# Altium integrated library Microchip Microcontroller 8-Bit PIC16 1.IntLib: 1072 symbols (part 21 of 33)
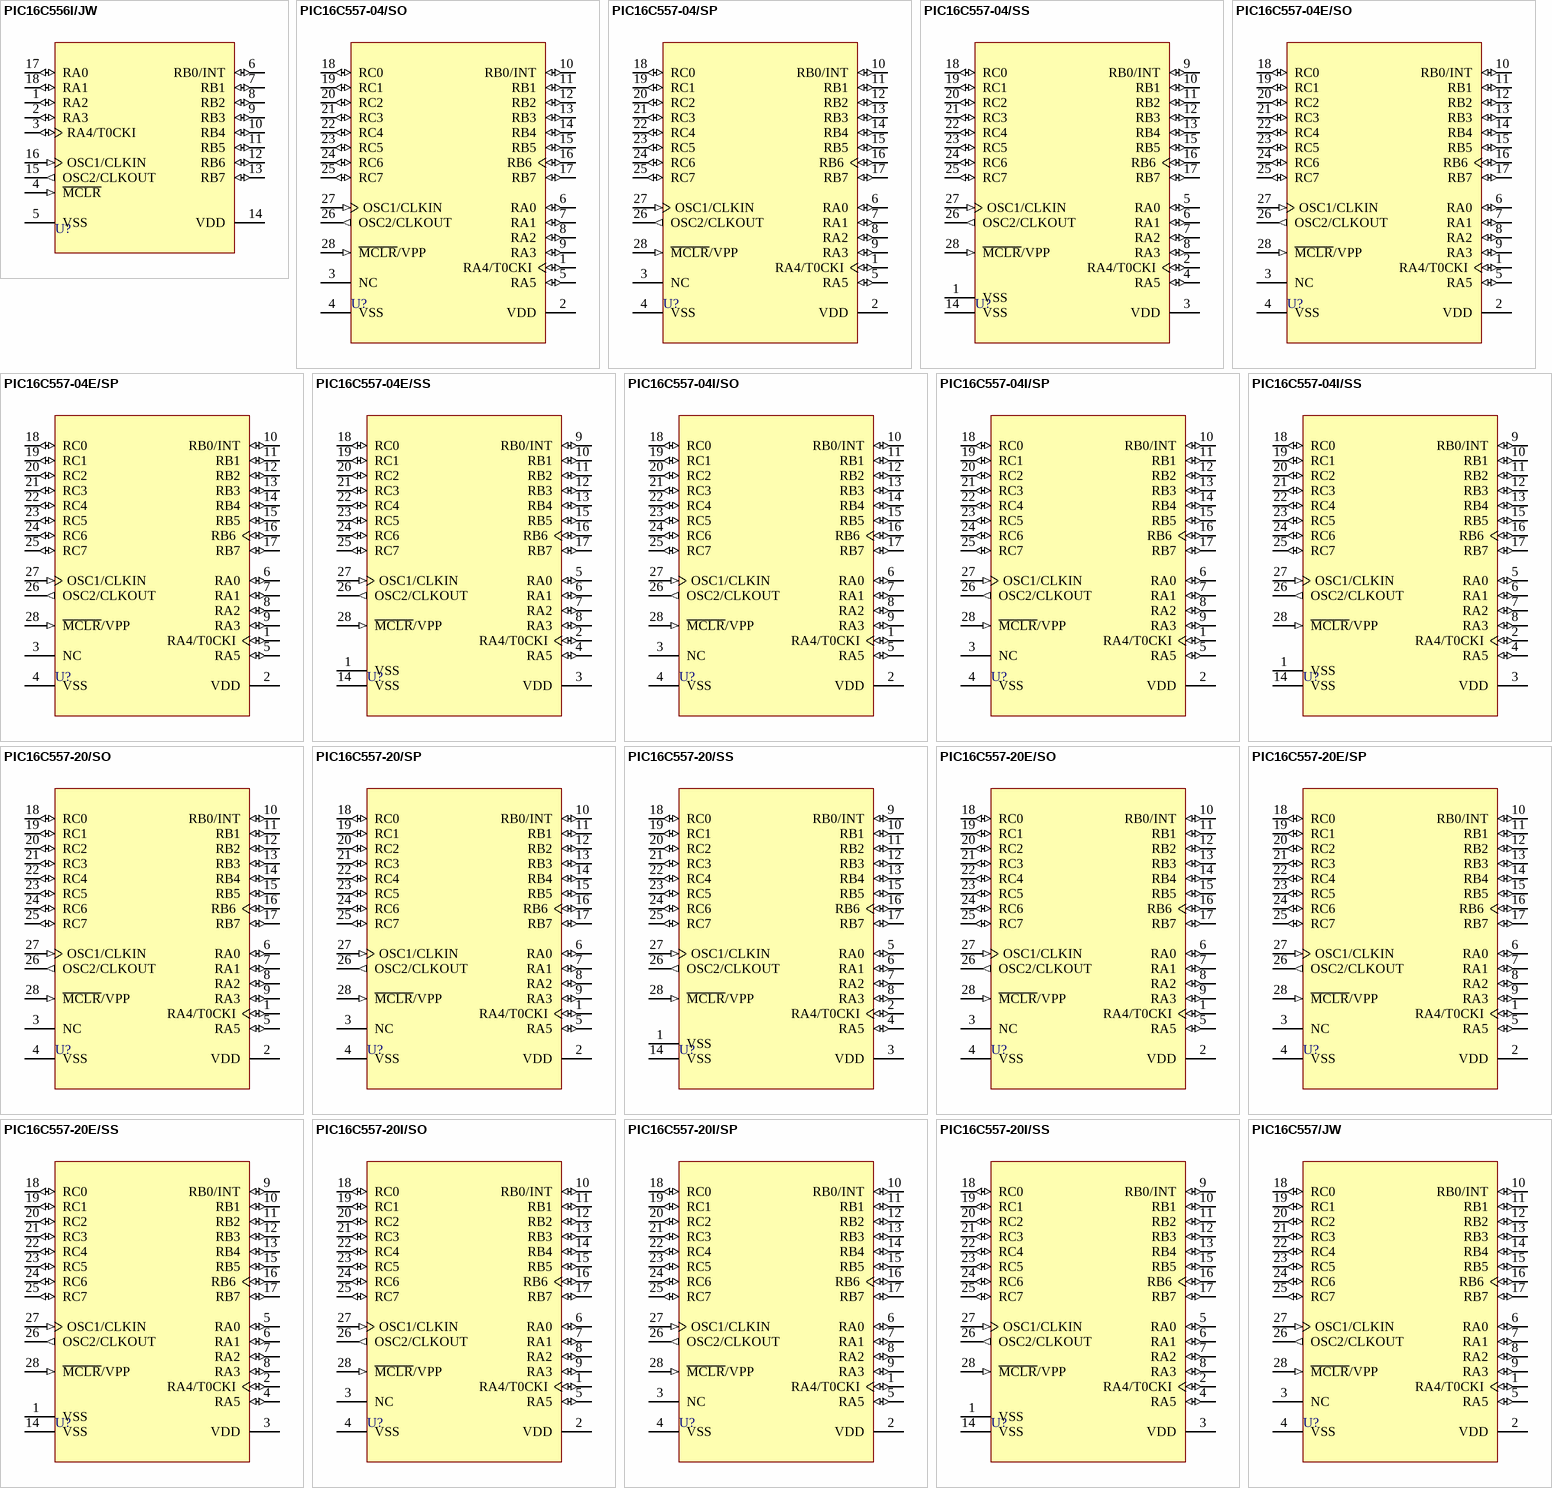
[diagram p67: symbols PIC16C556I/JW to PIC16C557/JW]

## PIC16C557-04/SP
designator U?
EPROM-Based 8-Bit CMOS Microcontroller, 128 Bytes RAM, 4 MHz, 22 I/O pins, 28-Pin PDIP 300mil, Standard VDD Range, Commercial Temperature; Note: All PIC16C55X Family devices use serial programming with clock pin RB6 and data pin RB7.; Note: 3.0 to 5.5V Supply Range in RC, XT and LP modes.; Note: 4.5 to 5.5V Supply Range in HS mode.; Published: 11-Oct-2004; LatestRevisionDate: 04-Mar-2005; LatestRevisionNote: Stylized 3D Model Added.; DatasheetVersion: DS40143D_2002; PackageVersion: 2003; PackageReference: PDIP300-28; Publisher: Altium Limited; PackageDescription: DIP, Plastic, Skinny; 28 Leads; Row Spacing 7.62 mm; Pitch 2.54 mm; Code_JEDEC: MO-095; ComponentLink1Description: Manufacturer Link; ComponentLink1URL: http://www.microchip.com; ComponentLink2Description: Datasheet; ComponentLink2URL: http://ww1.microchip.com/downloads/en/DeviceDoc/40143d.pdf; ComponentLink3Description: Packaging Specification; ComponentLink3URL: http://ww1.microchip.com/downloads/en/PackagingSpec/00049AD.pdf
footprint PDIP300-28 (DIP, Plastic, Skinny; 28 Leads; Row Spacing 7.62 mm; Pitch 2.54 mm)
3D model PDIP300-28 (DIP, Plastic, Skinny; 28 Leads; Row Spacing 7.62 mm; Pitch 2.54 mm)
pins: 1 RA4/T0CKI (io), 2 VDD (power), 3 NC, 4 VSS (power), 5 RA5 (io), 6 RA0 (io), 7 RA1 (io), 8 RA2 (io), 9 RA3 (io), 10 RB0/INT (io), 11 RB1 (io), 12 RB2 (io), 13 RB3 (io), 14 RB4 (io), 15 RB5 (io), 16 RB6 (io), 17 RB7 (io), 18 RC0 (io), 19 RC1 (io), 20 RC2 (io), 21 RC3 (io), 22 RC4 (io), 23 RC5 (io), 24 RC6 (io), 25 RC7 (io), 26 OSC2/CLKOUT (out), 27 OSC1/CLKIN (in), 28 ~{MCLR}/VPP (in)

## PIC16C557-04/SS
designator U?
EPROM-Based 8-Bit CMOS Microcontroller, 128 Bytes RAM, 4 MHz, 22 I/O pins, 28-Pin SSOP, Standard VDD Range, Commercial Temperature; Note: All PIC16C55X Family devices use serial programming with clock pin RB6 and data pin RB7.; Note: 3.0 to 5.5V Supply Range in RC, XT and LP modes.; Note: 4.5 to 5.5V Supply Range in HS mode.; Published: 11-Oct-2004; LatestRevisionDate: 04-Mar-2005; LatestRevisionNote: Stylized 3D Model Added.; DatasheetVersion: DS40143D_2002; PackageVersion: 2005; PackageReference: SSOP-28; Publisher: Altium Limited; PackageDescription: SSOP, Plastic; 28 Leads; Body Width 5.2 mm; Pitch 0.65 mm; Code_JEDEC: MS-150; ComponentLink1Description: Manufacturer Link; ComponentLink1URL: http://www.microchip.com; ComponentLink2Description: Datasheet; ComponentLink2URL: http://ww1.microchip.com/downloads/en/DeviceDoc/40143d.pdf; ComponentLink3Description: Packaging Specification; ComponentLink3URL: http://ww1.microchip.com/downloads/en/PackagingSpec/00049AD.pdf
footprint SSOP-28 (SSOP, Plastic; 28 Leads; Body Width 5.2 mm; Pitch 0.65 mm)
3D model SSOP-28 (SSOP, Plastic; 28 Leads; Body Width 5.2 mm; Pitch 0.65 mm)
pins: 1 VSS (power), 2 RA4/T0CKI (io), 3 VDD (power), 4 RA5 (io), 5 RA0 (io), 6 RA1 (io), 7 RA2 (io), 8 RA3 (io), 9 RB0/INT (io), 10 RB1 (io), 11 RB2 (io), 12 RB3 (io), 13 RB4 (io), 14 VSS (power), 15 RB5 (io), 16 RB6 (io), 17 RB7 (io), 18 RC0 (io), 19 RC1 (io), 20 RC2 (io), 21 RC3 (io), 22 RC4 (io), 23 RC5 (io), 24 RC6 (io), 25 RC7 (io), 26 OSC2/CLKOUT (out), 27 OSC1/CLKIN (in), 28 ~{MCLR}/VPP (in)

## PIC16C557-04E/SO
designator U?
EPROM-Based 8-Bit CMOS Microcontroller, 128 Bytes RAM, 4 MHz, 22 I/O pins, 28-Pin SOIC, Standard VDD Range, Extended Temperature; Note: All PIC16C55X Family devices use serial programming with clock pin RB6 and data pin RB7.; Note: 3.0 to 5.5V Supply Range in RC, XT and LP modes.; Note: 4.5 to 5.5V Supply Range in HS mode.; Published: 11-Oct-2004; LatestRevisionDate: 13-Apr-2006; LatestRevisionNote: IPC-7351 Footprint Added.; DatasheetVersion: DS40143D_2002; PackageVersion: 2005; PackageReference: SOIC300-28; Publisher: Altium Limited; PackageDescription: 28-Pin Small Outline Integrated Circuit 1.27 mm Pitch; Code_JEDEC: MS-013; ComponentLink1Description: Manufacturer Link; ComponentLink1URL: http://www.microchip.com; ComponentLink2Description: Datasheet; ComponentLink2URL: http://ww1.microchip.com/downloads/en/DeviceDoc/40143d.pdf; ComponentLink3Description: Packaging Specification; ComponentLink3URL: http://ww1.microchip.com/downloads/en/PackagingSpec/00049AD.pdf
footprint SOIC300-28_N (SOIC, 28-Leads, Body 17.9x7.5mm, Pitch 1.27mm, IPC Medium Density)
footprint SOIC300-28_L (SOIC, 28-Leads, Body 17.9x7.5mm, Pitch 1.27mm, IPC High Density)
footprint SOIC300-28_M (SOIC, 28-Leads, Body 17.9x7.5mm, Pitch 1.27mm, IPC Low Density)
3D model SOIC300-28 (28-Pin Small Outline Integrated Circuit 1.27 mm Pitch)
pins: 1 RA4/T0CKI (io), 2 VDD (power), 3 NC, 4 VSS (power), 5 RA5 (io), 6 RA0 (io), 7 RA1 (io), 8 RA2 (io), 9 RA3 (io), 10 RB0/INT (io), 11 RB1 (io), 12 RB2 (io), 13 RB3 (io), 14 RB4 (io), 15 RB5 (io), 16 RB6 (io), 17 RB7 (io), 18 RC0 (io), 19 RC1 (io), 20 RC2 (io), 21 RC3 (io), 22 RC4 (io), 23 RC5 (io), 24 RC6 (io), 25 RC7 (io), 26 OSC2/CLKOUT (out), 27 OSC1/CLKIN (in), 28 ~{MCLR}/VPP (in)

## PIC16C557-04E/SP
designator U?
EPROM-Based 8-Bit CMOS Microcontroller, 128 Bytes RAM, 4 MHz, 22 I/O pins, 28-Pin PDIP 300mil, Standard VDD Range, Extended Temperature; Note: All PIC16C55X Family devices use serial programming with clock pin RB6 and data pin RB7.; Note: 3.0 to 5.5V Supply Range in RC, XT and LP modes.; Note: 4.5 to 5.5V Supply Range in HS mode.; Published: 11-Oct-2004; LatestRevisionDate: 04-Mar-2005; LatestRevisionNote: Stylized 3D Model Added.; DatasheetVersion: DS40143D_2002; PackageVersion: 2003; PackageReference: PDIP300-28; Publisher: Altium Limited; PackageDescription: DIP, Plastic, Skinny; 28 Leads; Row Spacing 7.62 mm; Pitch 2.54 mm; Code_JEDEC: MO-095; ComponentLink1Description: Manufacturer Link; ComponentLink1URL: http://www.microchip.com; ComponentLink2Description: Datasheet; ComponentLink2URL: http://ww1.microchip.com/downloads/en/DeviceDoc/40143d.pdf; ComponentLink3Description: Packaging Specification; ComponentLink3URL: http://ww1.microchip.com/downloads/en/PackagingSpec/00049AD.pdf
footprint PDIP300-28 (DIP, Plastic, Skinny; 28 Leads; Row Spacing 7.62 mm; Pitch 2.54 mm)
3D model PDIP300-28 (DIP, Plastic, Skinny; 28 Leads; Row Spacing 7.62 mm; Pitch 2.54 mm)
pins: 1 RA4/T0CKI (io), 2 VDD (power), 3 NC, 4 VSS (power), 5 RA5 (io), 6 RA0 (io), 7 RA1 (io), 8 RA2 (io), 9 RA3 (io), 10 RB0/INT (io), 11 RB1 (io), 12 RB2 (io), 13 RB3 (io), 14 RB4 (io), 15 RB5 (io), 16 RB6 (io), 17 RB7 (io), 18 RC0 (io), 19 RC1 (io), 20 RC2 (io), 21 RC3 (io), 22 RC4 (io), 23 RC5 (io), 24 RC6 (io), 25 RC7 (io), 26 OSC2/CLKOUT (out), 27 OSC1/CLKIN (in), 28 ~{MCLR}/VPP (in)

## PIC16C557-04E/SS
designator U?
EPROM-Based 8-Bit CMOS Microcontroller, 128 Bytes RAM, 4 MHz, 22 I/O pins, 28-Pin SSOP, Standard VDD Range, Extended Temperature; Note: All PIC16C55X Family devices use serial programming with clock pin RB6 and data pin RB7.; Note: 3.0 to 5.5V Supply Range in RC, XT and LP modes.; Note: 4.5 to 5.5V Supply Range in HS mode.; Published: 11-Oct-2004; LatestRevisionDate: 04-Mar-2005; LatestRevisionNote: Stylized 3D Model Added.; DatasheetVersion: DS40143D_2002; PackageVersion: 2005; PackageReference: SSOP-28; Publisher: Altium Limited; PackageDescription: SSOP, Plastic; 28 Leads; Body Width 5.2 mm; Pitch 0.65 mm; Code_JEDEC: MS-150; ComponentLink1Description: Manufacturer Link; ComponentLink1URL: http://www.microchip.com; ComponentLink2Description: Datasheet; ComponentLink2URL: http://ww1.microchip.com/downloads/en/DeviceDoc/40143d.pdf; ComponentLink3Description: Packaging Specification; ComponentLink3URL: http://ww1.microchip.com/downloads/en/PackagingSpec/00049AD.pdf
footprint SSOP-28 (SSOP, Plastic; 28 Leads; Body Width 5.2 mm; Pitch 0.65 mm)
3D model SSOP-28 (SSOP, Plastic; 28 Leads; Body Width 5.2 mm; Pitch 0.65 mm)
pins: 1 VSS (power), 2 RA4/T0CKI (io), 3 VDD (power), 4 RA5 (io), 5 RA0 (io), 6 RA1 (io), 7 RA2 (io), 8 RA3 (io), 9 RB0/INT (io), 10 RB1 (io), 11 RB2 (io), 12 RB3 (io), 13 RB4 (io), 14 VSS (power), 15 RB5 (io), 16 RB6 (io), 17 RB7 (io), 18 RC0 (io), 19 RC1 (io), 20 RC2 (io), 21 RC3 (io), 22 RC4 (io), 23 RC5 (io), 24 RC6 (io), 25 RC7 (io), 26 OSC2/CLKOUT (out), 27 OSC1/CLKIN (in), 28 ~{MCLR}/VPP (in)

## PIC16C557-04I/SO
designator U?
EPROM-Based 8-Bit CMOS Microcontroller, 128 Bytes RAM, 4 MHz, 22 I/O pins, 28-Pin SOIC, Standard VDD Range, Industrial Temperature; Note: All PIC16C55X Family devices use serial programming with clock pin RB6 and data pin RB7.; Note: 3.0 to 5.5V Supply Range in RC, XT and LP modes.; Note: 4.5 to 5.5V Supply Range in HS mode.; Published: 11-Oct-2004; LatestRevisionDate: 13-Apr-2006; LatestRevisionNote: IPC-7351 Footprint Added.; DatasheetVersion: DS40143D_2002; PackageVersion: 2005; PackageReference: SOIC300-28; Publisher: Altium Limited; PackageDescription: 28-Pin Small Outline Integrated Circuit 1.27 mm Pitch; Code_JEDEC: MS-013; ComponentLink1Description: Manufacturer Link; ComponentLink1URL: http://www.microchip.com; ComponentLink2Description: Datasheet; ComponentLink2URL: http://ww1.microchip.com/downloads/en/DeviceDoc/40143d.pdf; ComponentLink3Description: Packaging Specification; ComponentLink3URL: http://ww1.microchip.com/downloads/en/PackagingSpec/00049AD.pdf
footprint SOIC300-28_N (SOIC, 28-Leads, Body 17.9x7.5mm, Pitch 1.27mm, IPC Medium Density)
footprint SOIC300-28_L (SOIC, 28-Leads, Body 17.9x7.5mm, Pitch 1.27mm, IPC High Density)
footprint SOIC300-28_M (SOIC, 28-Leads, Body 17.9x7.5mm, Pitch 1.27mm, IPC Low Density)
3D model SOIC300-28 (28-Pin Small Outline Integrated Circuit 1.27 mm Pitch)
pins: 1 RA4/T0CKI (io), 2 VDD (power), 3 NC, 4 VSS (power), 5 RA5 (io), 6 RA0 (io), 7 RA1 (io), 8 RA2 (io), 9 RA3 (io), 10 RB0/INT (io), 11 RB1 (io), 12 RB2 (io), 13 RB3 (io), 14 RB4 (io), 15 RB5 (io), 16 RB6 (io), 17 RB7 (io), 18 RC0 (io), 19 RC1 (io), 20 RC2 (io), 21 RC3 (io), 22 RC4 (io), 23 RC5 (io), 24 RC6 (io), 25 RC7 (io), 26 OSC2/CLKOUT (out), 27 OSC1/CLKIN (in), 28 ~{MCLR}/VPP (in)

## PIC16C557-04I/SP
designator U?
EPROM-Based 8-Bit CMOS Microcontroller, 128 Bytes RAM, 4 MHz, 22 I/O pins, 28-Pin PDIP 300mil, Standard VDD Range, Industrial Temperature; Note: All PIC16C55X Family devices use serial programming with clock pin RB6 and data pin RB7.; Note: 3.0 to 5.5V Supply Range in RC, XT and LP modes.; Note: 4.5 to 5.5V Supply Range in HS mode.; Published: 11-Oct-2004; LatestRevisionDate: 04-Mar-2005; LatestRevisionNote: Stylized 3D Model Added.; DatasheetVersion: DS40143D_2002; PackageVersion: 2003; PackageReference: PDIP300-28; Publisher: Altium Limited; PackageDescription: DIP, Plastic, Skinny; 28 Leads; Row Spacing 7.62 mm; Pitch 2.54 mm; Code_JEDEC: MO-095; ComponentLink1Description: Manufacturer Link; ComponentLink1URL: http://www.microchip.com; ComponentLink2Description: Datasheet; ComponentLink2URL: http://ww1.microchip.com/downloads/en/DeviceDoc/40143d.pdf; ComponentLink3Description: Packaging Specification; ComponentLink3URL: http://ww1.microchip.com/downloads/en/PackagingSpec/00049AD.pdf
footprint PDIP300-28 (DIP, Plastic, Skinny; 28 Leads; Row Spacing 7.62 mm; Pitch 2.54 mm)
3D model PDIP300-28 (DIP, Plastic, Skinny; 28 Leads; Row Spacing 7.62 mm; Pitch 2.54 mm)
pins: 1 RA4/T0CKI (io), 2 VDD (power), 3 NC, 4 VSS (power), 5 RA5 (io), 6 RA0 (io), 7 RA1 (io), 8 RA2 (io), 9 RA3 (io), 10 RB0/INT (io), 11 RB1 (io), 12 RB2 (io), 13 RB3 (io), 14 RB4 (io), 15 RB5 (io), 16 RB6 (io), 17 RB7 (io), 18 RC0 (io), 19 RC1 (io), 20 RC2 (io), 21 RC3 (io), 22 RC4 (io), 23 RC5 (io), 24 RC6 (io), 25 RC7 (io), 26 OSC2/CLKOUT (out), 27 OSC1/CLKIN (in), 28 ~{MCLR}/VPP (in)

## PIC16C557-04I/SS
designator U?
EPROM-Based 8-Bit CMOS Microcontroller, 128 Bytes RAM, 4 MHz, 22 I/O pins, 28-Pin SSOP, Standard VDD Range, Industrial Temperature; Note: All PIC16C55X Family devices use serial programming with clock pin RB6 and data pin RB7.; Note: 3.0 to 5.5V Supply Range in RC, XT and LP modes.; Note: 4.5 to 5.5V Supply Range in HS mode.; Published: 11-Oct-2004; LatestRevisionDate: 04-Mar-2005; LatestRevisionNote: Stylized 3D Model Added.; DatasheetVersion: DS40143D_2002; PackageVersion: 2005; PackageReference: SSOP-28; Publisher: Altium Limited; PackageDescription: SSOP, Plastic; 28 Leads; Body Width 5.2 mm; Pitch 0.65 mm; Code_JEDEC: MS-150; ComponentLink1Description: Manufacturer Link; ComponentLink1URL: http://www.microchip.com; ComponentLink2Description: Datasheet; ComponentLink2URL: http://ww1.microchip.com/downloads/en/DeviceDoc/40143d.pdf; ComponentLink3Description: Packaging Specification; ComponentLink3URL: http://ww1.microchip.com/downloads/en/PackagingSpec/00049AD.pdf
footprint SSOP-28 (SSOP, Plastic; 28 Leads; Body Width 5.2 mm; Pitch 0.65 mm)
3D model SSOP-28 (SSOP, Plastic; 28 Leads; Body Width 5.2 mm; Pitch 0.65 mm)
pins: 1 VSS (power), 2 RA4/T0CKI (io), 3 VDD (power), 4 RA5 (io), 5 RA0 (io), 6 RA1 (io), 7 RA2 (io), 8 RA3 (io), 9 RB0/INT (io), 10 RB1 (io), 11 RB2 (io), 12 RB3 (io), 13 RB4 (io), 14 VSS (power), 15 RB5 (io), 16 RB6 (io), 17 RB7 (io), 18 RC0 (io), 19 RC1 (io), 20 RC2 (io), 21 RC3 (io), 22 RC4 (io), 23 RC5 (io), 24 RC6 (io), 25 RC7 (io), 26 OSC2/CLKOUT (out), 27 OSC1/CLKIN (in), 28 ~{MCLR}/VPP (in)

## PIC16C557-20/SO
designator U?
EPROM-Based 8-Bit CMOS Microcontroller, 128 Bytes RAM, 20 MHz, 22 I/O pins, 28-Pin SOIC, Standard VDD Range, Commercial Temperature; Note: All PIC16C55X Family devices use serial programming with clock pin RB6 and data pin RB7.; Note: 3.0 to 5.5V Supply Range in RC, XT and LP modes.; Note: 4.5 to 5.5V Supply Range in HS mode.; Published: 11-Oct-2004; LatestRevisionDate: 13-Apr-2006; LatestRevisionNote: IPC-7351 Footprint Added.; DatasheetVersion: DS40143D_2002; PackageVersion: 2005; PackageReference: SOIC300-28; Publisher: Altium Limited; PackageDescription: 28-Pin Small Outline Integrated Circuit 1.27 mm Pitch; Code_JEDEC: MS-013; ComponentLink1Description: Manufacturer Link; ComponentLink1URL: http://www.microchip.com; ComponentLink2Description: Datasheet; ComponentLink2URL: http://ww1.microchip.com/downloads/en/DeviceDoc/40143d.pdf; ComponentLink3Description: Packaging Specification; ComponentLink3URL: http://ww1.microchip.com/downloads/en/PackagingSpec/00049AD.pdf
footprint SOIC300-28_N (SOIC, 28-Leads, Body 17.9x7.5mm, Pitch 1.27mm, IPC Medium Density)
footprint SOIC300-28_L (SOIC, 28-Leads, Body 17.9x7.5mm, Pitch 1.27mm, IPC High Density)
footprint SOIC300-28_M (SOIC, 28-Leads, Body 17.9x7.5mm, Pitch 1.27mm, IPC Low Density)
3D model SOIC300-28 (28-Pin Small Outline Integrated Circuit 1.27 mm Pitch)
pins: 1 RA4/T0CKI (io), 2 VDD (power), 3 NC, 4 VSS (power), 5 RA5 (io), 6 RA0 (io), 7 RA1 (io), 8 RA2 (io), 9 RA3 (io), 10 RB0/INT (io), 11 RB1 (io), 12 RB2 (io), 13 RB3 (io), 14 RB4 (io), 15 RB5 (io), 16 RB6 (io), 17 RB7 (io), 18 RC0 (io), 19 RC1 (io), 20 RC2 (io), 21 RC3 (io), 22 RC4 (io), 23 RC5 (io), 24 RC6 (io), 25 RC7 (io), 26 OSC2/CLKOUT (out), 27 OSC1/CLKIN (in), 28 ~{MCLR}/VPP (in)

## PIC16C557-20/SP
designator U?
EPROM-Based 8-Bit CMOS Microcontroller, 128 Bytes RAM, 20 MHz, 22 I/O pins, 28-Pin PDIP 300mil, Standard VDD Range, Commercial Temperature; Note: All PIC16C55X Family devices use serial programming with clock pin RB6 and data pin RB7.; Note: 3.0 to 5.5V Supply Range in RC, XT and LP modes.; Note: 4.5 to 5.5V Supply Range in HS mode.; Published: 11-Oct-2004; LatestRevisionDate: 04-Mar-2005; LatestRevisionNote: Stylized 3D Model Added.; DatasheetVersion: DS40143D_2002; PackageVersion: 2003; PackageReference: PDIP300-28; Publisher: Altium Limited; PackageDescription: DIP, Plastic, Skinny; 28 Leads; Row Spacing 7.62 mm; Pitch 2.54 mm; Code_JEDEC: MO-095; ComponentLink1Description: Manufacturer Link; ComponentLink1URL: http://www.microchip.com; ComponentLink2Description: Datasheet; ComponentLink2URL: http://ww1.microchip.com/downloads/en/DeviceDoc/40143d.pdf; ComponentLink3Description: Packaging Specification; ComponentLink3URL: http://ww1.microchip.com/downloads/en/PackagingSpec/00049AD.pdf
footprint PDIP300-28 (DIP, Plastic, Skinny; 28 Leads; Row Spacing 7.62 mm; Pitch 2.54 mm)
3D model PDIP300-28 (DIP, Plastic, Skinny; 28 Leads; Row Spacing 7.62 mm; Pitch 2.54 mm)
pins: 1 RA4/T0CKI (io), 2 VDD (power), 3 NC, 4 VSS (power), 5 RA5 (io), 6 RA0 (io), 7 RA1 (io), 8 RA2 (io), 9 RA3 (io), 10 RB0/INT (io), 11 RB1 (io), 12 RB2 (io), 13 RB3 (io), 14 RB4 (io), 15 RB5 (io), 16 RB6 (io), 17 RB7 (io), 18 RC0 (io), 19 RC1 (io), 20 RC2 (io), 21 RC3 (io), 22 RC4 (io), 23 RC5 (io), 24 RC6 (io), 25 RC7 (io), 26 OSC2/CLKOUT (out), 27 OSC1/CLKIN (in), 28 ~{MCLR}/VPP (in)

## PIC16C557-20/SS
designator U?
EPROM-Based 8-Bit CMOS Microcontroller, 128 Bytes RAM, 20 MHz, 22 I/O pins, 28-Pin SSOP, Standard VDD Range, Commercial Temperature; Note: All PIC16C55X Family devices use serial programming with clock pin RB6 and data pin RB7.; Note: 3.0 to 5.5V Supply Range in RC, XT and LP modes.; Note: 4.5 to 5.5V Supply Range in HS mode.; Published: 11-Oct-2004; LatestRevisionDate: 04-Mar-2005; LatestRevisionNote: Stylized 3D Model Added.; DatasheetVersion: DS40143D_2002; PackageVersion: 2005; PackageReference: SSOP-28; Publisher: Altium Limited; PackageDescription: SSOP, Plastic; 28 Leads; Body Width 5.2 mm; Pitch 0.65 mm; Code_JEDEC: MS-150; ComponentLink1Description: Manufacturer Link; ComponentLink1URL: http://www.microchip.com; ComponentLink2Description: Datasheet; ComponentLink2URL: http://ww1.microchip.com/downloads/en/DeviceDoc/40143d.pdf; ComponentLink3Description: Packaging Specification; ComponentLink3URL: http://ww1.microchip.com/downloads/en/PackagingSpec/00049AD.pdf
footprint SSOP-28 (SSOP, Plastic; 28 Leads; Body Width 5.2 mm; Pitch 0.65 mm)
3D model SSOP-28 (SSOP, Plastic; 28 Leads; Body Width 5.2 mm; Pitch 0.65 mm)
pins: 1 VSS (power), 2 RA4/T0CKI (io), 3 VDD (power), 4 RA5 (io), 5 RA0 (io), 6 RA1 (io), 7 RA2 (io), 8 RA3 (io), 9 RB0/INT (io), 10 RB1 (io), 11 RB2 (io), 12 RB3 (io), 13 RB4 (io), 14 VSS (power), 15 RB5 (io), 16 RB6 (io), 17 RB7 (io), 18 RC0 (io), 19 RC1 (io), 20 RC2 (io), 21 RC3 (io), 22 RC4 (io), 23 RC5 (io), 24 RC6 (io), 25 RC7 (io), 26 OSC2/CLKOUT (out), 27 OSC1/CLKIN (in), 28 ~{MCLR}/VPP (in)

## PIC16C557-20E/SO
designator U?
EPROM-Based 8-Bit CMOS Microcontroller, 128 Bytes RAM, 20 MHz, 22 I/O pins, 28-Pin SOIC, Standard VDD Range, Extended Temperature; Note: All PIC16C55X Family devices use serial programming with clock pin RB6 and data pin RB7.; Note: 3.0 to 5.5V Supply Range in RC, XT and LP modes.; Note: 4.5 to 5.5V Supply Range in HS mode.; Published: 11-Oct-2004; LatestRevisionDate: 13-Apr-2006; LatestRevisionNote: IPC-7351 Footprint Added.; DatasheetVersion: DS40143D_2002; PackageVersion: 2005; PackageReference: SOIC300-28; Publisher: Altium Limited; PackageDescription: 28-Pin Small Outline Integrated Circuit 1.27 mm Pitch; Code_JEDEC: MS-013; ComponentLink1Description: Manufacturer Link; ComponentLink1URL: http://www.microchip.com; ComponentLink2Description: Datasheet; ComponentLink2URL: http://ww1.microchip.com/downloads/en/DeviceDoc/40143d.pdf; ComponentLink3Description: Packaging Specification; ComponentLink3URL: http://ww1.microchip.com/downloads/en/PackagingSpec/00049AD.pdf
footprint SOIC300-28_N (SOIC, 28-Leads, Body 17.9x7.5mm, Pitch 1.27mm, IPC Medium Density)
footprint SOIC300-28_L (SOIC, 28-Leads, Body 17.9x7.5mm, Pitch 1.27mm, IPC High Density)
footprint SOIC300-28_M (SOIC, 28-Leads, Body 17.9x7.5mm, Pitch 1.27mm, IPC Low Density)
3D model SOIC300-28 (28-Pin Small Outline Integrated Circuit 1.27 mm Pitch)
pins: 1 RA4/T0CKI (io), 2 VDD (power), 3 NC, 4 VSS (power), 5 RA5 (io), 6 RA0 (io), 7 RA1 (io), 8 RA2 (io), 9 RA3 (io), 10 RB0/INT (io), 11 RB1 (io), 12 RB2 (io), 13 RB3 (io), 14 RB4 (io), 15 RB5 (io), 16 RB6 (io), 17 RB7 (io), 18 RC0 (io), 19 RC1 (io), 20 RC2 (io), 21 RC3 (io), 22 RC4 (io), 23 RC5 (io), 24 RC6 (io), 25 RC7 (io), 26 OSC2/CLKOUT (out), 27 OSC1/CLKIN (in), 28 ~{MCLR}/VPP (in)

## PIC16C557-20E/SP
designator U?
EPROM-Based 8-Bit CMOS Microcontroller, 128 Bytes RAM, 20 MHz, 22 I/O pins, 28-Pin PDIP 300mil, Standard VDD Range, Extended Temperature; Note: All PIC16C55X Family devices use serial programming with clock pin RB6 and data pin RB7.; Note: 3.0 to 5.5V Supply Range in RC, XT and LP modes.; Note: 4.5 to 5.5V Supply Range in HS mode.; Published: 11-Oct-2004; LatestRevisionDate: 04-Mar-2005; LatestRevisionNote: Stylized 3D Model Added.; DatasheetVersion: DS40143D_2002; PackageVersion: 2003; PackageReference: PDIP300-28; Publisher: Altium Limited; PackageDescription: DIP, Plastic, Skinny; 28 Leads; Row Spacing 7.62 mm; Pitch 2.54 mm; Code_JEDEC: MO-095; ComponentLink1Description: Manufacturer Link; ComponentLink1URL: http://www.microchip.com; ComponentLink2Description: Datasheet; ComponentLink2URL: http://ww1.microchip.com/downloads/en/DeviceDoc/40143d.pdf; ComponentLink3Description: Packaging Specification; ComponentLink3URL: http://ww1.microchip.com/downloads/en/PackagingSpec/00049AD.pdf
footprint PDIP300-28 (DIP, Plastic, Skinny; 28 Leads; Row Spacing 7.62 mm; Pitch 2.54 mm)
3D model PDIP300-28 (DIP, Plastic, Skinny; 28 Leads; Row Spacing 7.62 mm; Pitch 2.54 mm)
pins: 1 RA4/T0CKI (io), 2 VDD (power), 3 NC, 4 VSS (power), 5 RA5 (io), 6 RA0 (io), 7 RA1 (io), 8 RA2 (io), 9 RA3 (io), 10 RB0/INT (io), 11 RB1 (io), 12 RB2 (io), 13 RB3 (io), 14 RB4 (io), 15 RB5 (io), 16 RB6 (io), 17 RB7 (io), 18 RC0 (io), 19 RC1 (io), 20 RC2 (io), 21 RC3 (io), 22 RC4 (io), 23 RC5 (io), 24 RC6 (io), 25 RC7 (io), 26 OSC2/CLKOUT (out), 27 OSC1/CLKIN (in), 28 ~{MCLR}/VPP (in)

## PIC16C557-20E/SS
designator U?
EPROM-Based 8-Bit CMOS Microcontroller, 128 Bytes RAM, 20 MHz, 22 I/O pins, 28-Pin SSOP, Standard VDD Range, Extended Temperature; Note: All PIC16C55X Family devices use serial programming with clock pin RB6 and data pin RB7.; Note: 3.0 to 5.5V Supply Range in RC, XT and LP modes.; Note: 4.5 to 5.5V Supply Range in HS mode.; Published: 11-Oct-2004; LatestRevisionDate: 04-Mar-2005; LatestRevisionNote: Stylized 3D Model Added.; DatasheetVersion: DS40143D_2002; PackageVersion: 2005; PackageReference: SSOP-28; Publisher: Altium Limited; PackageDescription: SSOP, Plastic; 28 Leads; Body Width 5.2 mm; Pitch 0.65 mm; Code_JEDEC: MS-150; ComponentLink1Description: Manufacturer Link; ComponentLink1URL: http://www.microchip.com; ComponentLink2Description: Datasheet; ComponentLink2URL: http://ww1.microchip.com/downloads/en/DeviceDoc/40143d.pdf; ComponentLink3Description: Packaging Specification; ComponentLink3URL: http://ww1.microchip.com/downloads/en/PackagingSpec/00049AD.pdf
footprint SSOP-28 (SSOP, Plastic; 28 Leads; Body Width 5.2 mm; Pitch 0.65 mm)
3D model SSOP-28 (SSOP, Plastic; 28 Leads; Body Width 5.2 mm; Pitch 0.65 mm)
pins: 1 VSS (power), 2 RA4/T0CKI (io), 3 VDD (power), 4 RA5 (io), 5 RA0 (io), 6 RA1 (io), 7 RA2 (io), 8 RA3 (io), 9 RB0/INT (io), 10 RB1 (io), 11 RB2 (io), 12 RB3 (io), 13 RB4 (io), 14 VSS (power), 15 RB5 (io), 16 RB6 (io), 17 RB7 (io), 18 RC0 (io), 19 RC1 (io), 20 RC2 (io), 21 RC3 (io), 22 RC4 (io), 23 RC5 (io), 24 RC6 (io), 25 RC7 (io), 26 OSC2/CLKOUT (out), 27 OSC1/CLKIN (in), 28 ~{MCLR}/VPP (in)

## PIC16C557-20I/SO
designator U?
EPROM-Based 8-Bit CMOS Microcontroller, 128 Bytes RAM, 20 MHz, 22 I/O pins, 28-Pin SOIC, Standard VDD Range, Industrial Temperature; Note: All PIC16C55X Family devices use serial programming with clock pin RB6 and data pin RB7.; Note: 3.0 to 5.5V Supply Range in RC, XT and LP modes.; Note: 4.5 to 5.5V Supply Range in HS mode.; Published: 11-Oct-2004; LatestRevisionDate: 13-Apr-2006; LatestRevisionNote: IPC-7351 Footprint Added.; DatasheetVersion: DS40143D_2002; PackageVersion: 2005; PackageReference: SOIC300-28; Publisher: Altium Limited; PackageDescription: 28-Pin Small Outline Integrated Circuit 1.27 mm Pitch; Code_JEDEC: MS-013; ComponentLink1Description: Manufacturer Link; ComponentLink1URL: http://www.microchip.com; ComponentLink2Description: Datasheet; ComponentLink2URL: http://ww1.microchip.com/downloads/en/DeviceDoc/40143d.pdf; ComponentLink3Description: Packaging Specification; ComponentLink3URL: http://ww1.microchip.com/downloads/en/PackagingSpec/00049AD.pdf
footprint SOIC300-28_N (SOIC, 28-Leads, Body 17.9x7.5mm, Pitch 1.27mm, IPC Medium Density)
footprint SOIC300-28_L (SOIC, 28-Leads, Body 17.9x7.5mm, Pitch 1.27mm, IPC High Density)
footprint SOIC300-28_M (SOIC, 28-Leads, Body 17.9x7.5mm, Pitch 1.27mm, IPC Low Density)
3D model SOIC300-28 (28-Pin Small Outline Integrated Circuit 1.27 mm Pitch)
pins: 1 RA4/T0CKI (io), 2 VDD (power), 3 NC, 4 VSS (power), 5 RA5 (io), 6 RA0 (io), 7 RA1 (io), 8 RA2 (io), 9 RA3 (io), 10 RB0/INT (io), 11 RB1 (io), 12 RB2 (io), 13 RB3 (io), 14 RB4 (io), 15 RB5 (io), 16 RB6 (io), 17 RB7 (io), 18 RC0 (io), 19 RC1 (io), 20 RC2 (io), 21 RC3 (io), 22 RC4 (io), 23 RC5 (io), 24 RC6 (io), 25 RC7 (io), 26 OSC2/CLKOUT (out), 27 OSC1/CLKIN (in), 28 ~{MCLR}/VPP (in)

## PIC16C557-20I/SP
designator U?
EPROM-Based 8-Bit CMOS Microcontroller, 128 Bytes RAM, 20 MHz, 22 I/O pins, 28-Pin PDIP 300mil, Standard VDD Range, Industrial Temperature; Note: All PIC16C55X Family devices use serial programming with clock pin RB6 and data pin RB7.; Note: 3.0 to 5.5V Supply Range in RC, XT and LP modes.; Note: 4.5 to 5.5V Supply Range in HS mode.; Published: 11-Oct-2004; LatestRevisionDate: 04-Mar-2005; LatestRevisionNote: Stylized 3D Model Added.; DatasheetVersion: DS40143D_2002; PackageVersion: 2003; PackageReference: PDIP300-28; Publisher: Altium Limited; PackageDescription: DIP, Plastic, Skinny; 28 Leads; Row Spacing 7.62 mm; Pitch 2.54 mm; Code_JEDEC: MO-095; ComponentLink1Description: Manufacturer Link; ComponentLink1URL: http://www.microchip.com; ComponentLink2Description: Datasheet; ComponentLink2URL: http://ww1.microchip.com/downloads/en/DeviceDoc/40143d.pdf; ComponentLink3Description: Packaging Specification; ComponentLink3URL: http://ww1.microchip.com/downloads/en/PackagingSpec/00049AD.pdf
footprint PDIP300-28 (DIP, Plastic, Skinny; 28 Leads; Row Spacing 7.62 mm; Pitch 2.54 mm)
3D model PDIP300-28 (DIP, Plastic, Skinny; 28 Leads; Row Spacing 7.62 mm; Pitch 2.54 mm)
pins: 1 RA4/T0CKI (io), 2 VDD (power), 3 NC, 4 VSS (power), 5 RA5 (io), 6 RA0 (io), 7 RA1 (io), 8 RA2 (io), 9 RA3 (io), 10 RB0/INT (io), 11 RB1 (io), 12 RB2 (io), 13 RB3 (io), 14 RB4 (io), 15 RB5 (io), 16 RB6 (io), 17 RB7 (io), 18 RC0 (io), 19 RC1 (io), 20 RC2 (io), 21 RC3 (io), 22 RC4 (io), 23 RC5 (io), 24 RC6 (io), 25 RC7 (io), 26 OSC2/CLKOUT (out), 27 OSC1/CLKIN (in), 28 ~{MCLR}/VPP (in)

## PIC16C557-20I/SS
designator U?
EPROM-Based 8-Bit CMOS Microcontroller, 128 Bytes RAM, 20 MHz, 22 I/O pins, 28-Pin SSOP, Standard VDD Range, Industrial Temperature; Note: All PIC16C55X Family devices use serial programming with clock pin RB6 and data pin RB7.; Note: 3.0 to 5.5V Supply Range in RC, XT and LP modes.; Note: 4.5 to 5.5V Supply Range in HS mode.; Published: 11-Oct-2004; LatestRevisionDate: 04-Mar-2005; LatestRevisionNote: Stylized 3D Model Added.; DatasheetVersion: DS40143D_2002; PackageVersion: 2005; PackageReference: SSOP-28; Publisher: Altium Limited; PackageDescription: SSOP, Plastic; 28 Leads; Body Width 5.2 mm; Pitch 0.65 mm; Code_JEDEC: MS-150; ComponentLink1Description: Manufacturer Link; ComponentLink1URL: http://www.microchip.com; ComponentLink2Description: Datasheet; ComponentLink2URL: http://ww1.microchip.com/downloads/en/DeviceDoc/40143d.pdf; ComponentLink3Description: Packaging Specification; ComponentLink3URL: http://ww1.microchip.com/downloads/en/PackagingSpec/00049AD.pdf
footprint SSOP-28 (SSOP, Plastic; 28 Leads; Body Width 5.2 mm; Pitch 0.65 mm)
3D model SSOP-28 (SSOP, Plastic; 28 Leads; Body Width 5.2 mm; Pitch 0.65 mm)
pins: 1 VSS (power), 2 RA4/T0CKI (io), 3 VDD (power), 4 RA5 (io), 5 RA0 (io), 6 RA1 (io), 7 RA2 (io), 8 RA3 (io), 9 RB0/INT (io), 10 RB1 (io), 11 RB2 (io), 12 RB3 (io), 13 RB4 (io), 14 VSS (power), 15 RB5 (io), 16 RB6 (io), 17 RB7 (io), 18 RC0 (io), 19 RC1 (io), 20 RC2 (io), 21 RC3 (io), 22 RC4 (io), 23 RC5 (io), 24 RC6 (io), 25 RC7 (io), 26 OSC2/CLKOUT (out), 27 OSC1/CLKIN (in), 28 ~{MCLR}/VPP (in)

## PIC16C557/JW
designator U?
EPROM-Based 8-Bit CMOS Microcontroller, 128 Bytes RAM, 22 I/O pins, 28-Pin CERDIP, UV Erasable, Standard VDD Range, Commercial Temperature; Note: All PIC16C55X Family devices use serial programming with clock pin RB6 and data pin RB7.; Note: JW Devices meet the electrical requirement of each oscillator type.; Published: 11-Oct-2004; LatestRevisionDate: 04-Mar-2005; LatestRevisionNote: Stylized 3D Model Added.; DatasheetVersion: DS40143D_2002; PackageVersion: 2003; PackageReference: CERDIP300W-28; Publisher: Altium Limited; PackageDescription: DIP, Ceramic, Window; 28 Leads; Row Spacing 7.62 mm; Pitch 2.54 mm; Code_JEDEC: MO-058; ComponentLink1Description: Manufacturer Link; ComponentLink1URL: http://www.microchip.com; ComponentLink2Description: Datasheet; ComponentLink2URL: http://ww1.microchip.com/downloads/en/DeviceDoc/40143d.pdf; ComponentLink3Description: Packaging Specification; ComponentLink3URL: http://ww1.microchip.com/downloads/en/PackagingSpec/00049AD.pdf
footprint CERDIP300W-28 (DIP, Ceramic, Window; 28 Leads; Row Spacing 7.62 mm; Pitch 2.54 mm)
3D model CERDIP300W-28 (DIP, Ceramic, Window; 28 Leads; Row Spacing 7.62 mm; Pitch 2.54 mm)
pins: 1 RA4/T0CKI (io), 2 VDD (power), 3 NC, 4 VSS (power), 5 RA5 (io), 6 RA0 (io), 7 RA1 (io), 8 RA2 (io), 9 RA3 (io), 10 RB0/INT (io), 11 RB1 (io), 12 RB2 (io), 13 RB3 (io), 14 RB4 (io), 15 RB5 (io), 16 RB6 (io), 17 RB7 (io), 18 RC0 (io), 19 RC1 (io), 20 RC2 (io), 21 RC3 (io), 22 RC4 (io), 23 RC5 (io), 24 RC6 (io), 25 RC7 (io), 26 OSC2/CLKOUT (out), 27 OSC1/CLKIN (in), 28 ~{MCLR}/VPP (in)

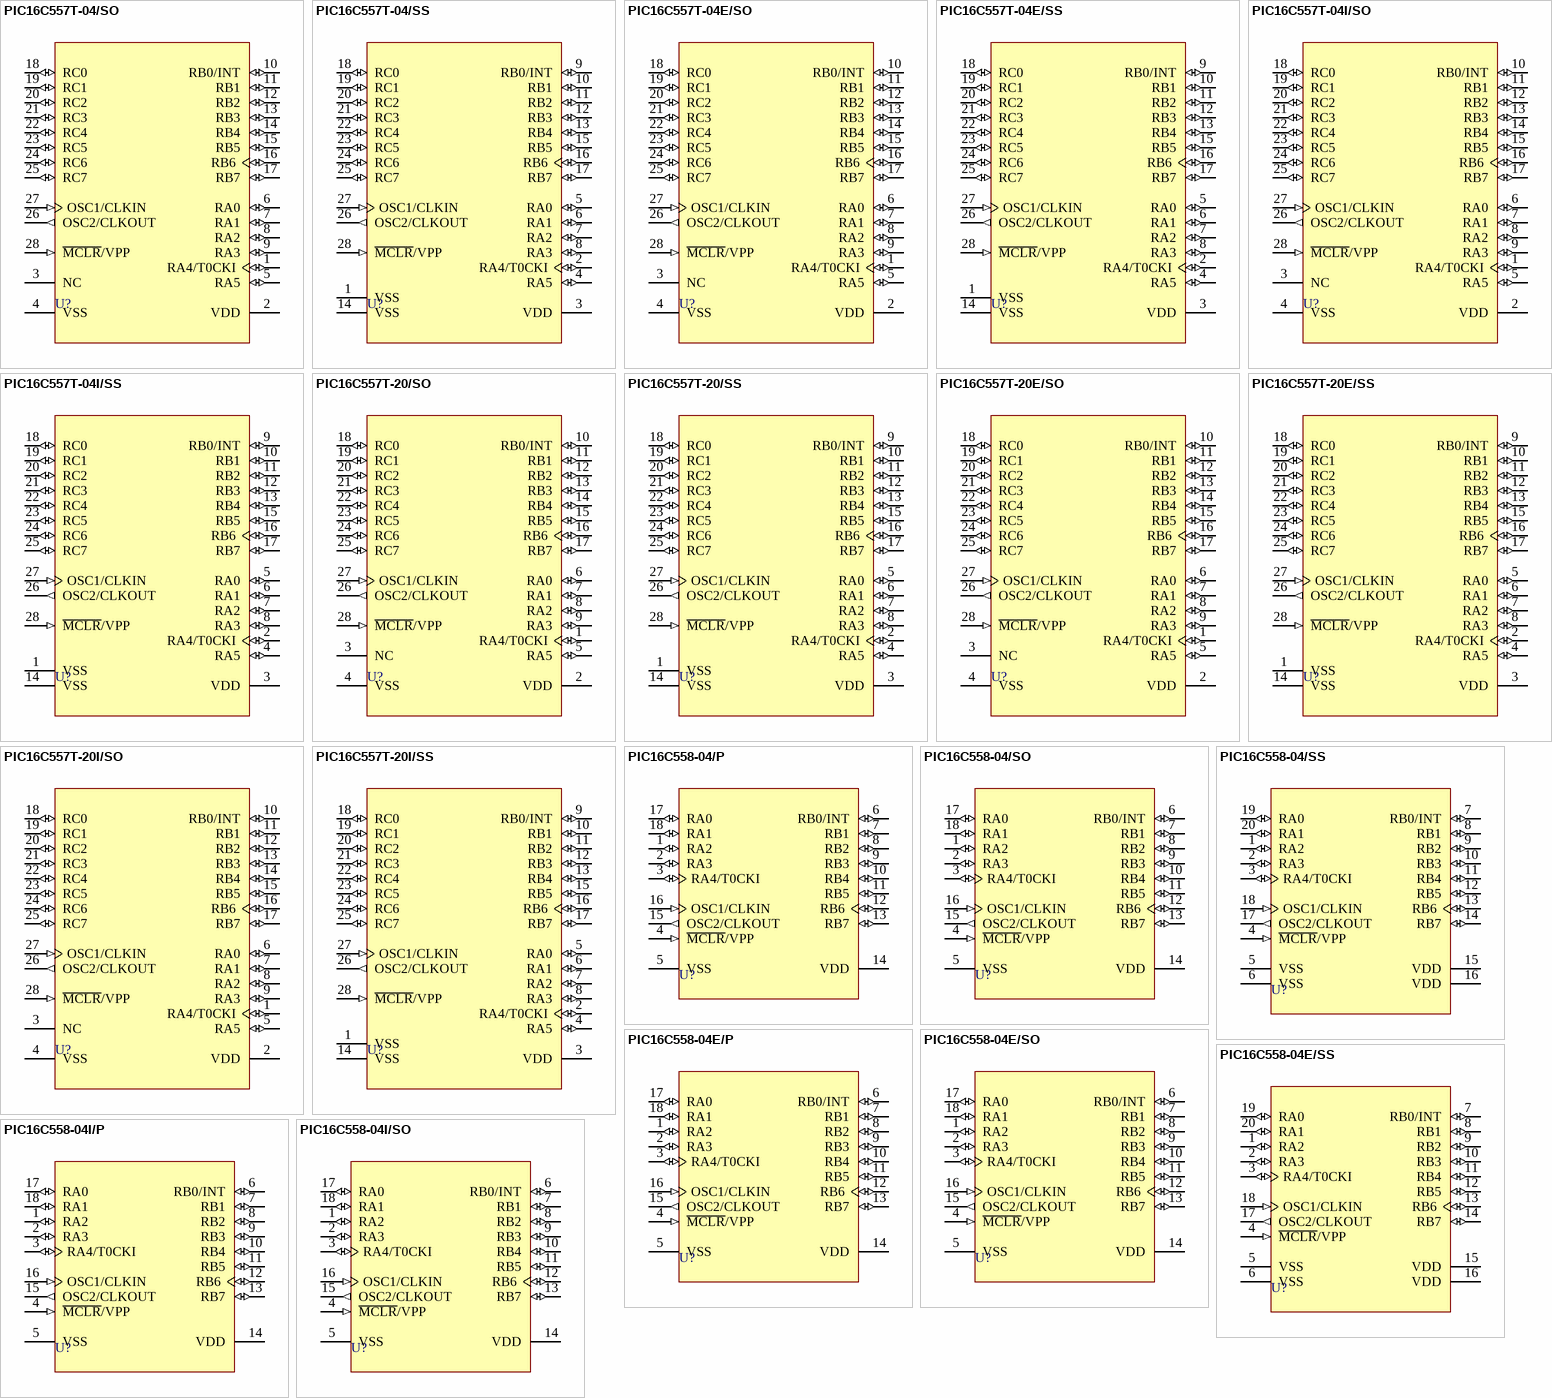
[diagram p30: symbols PIC16C557T-04/SO to PIC16C558-04I/SO]

## PIC16C557T-04/SO
designator U?
EPROM-Based 8-Bit CMOS Microcontroller, 128 Bytes RAM, 4 MHz, 22 I/O pins, 28-Pin SOIC, Standard VDD Range, Commercial Temperature, Tape and Reel; Note: All PIC16C55X Family devices use serial programming with clock pin RB6 and data pin RB7.; Note: 3.0 to 5.5V Supply Range in RC, XT and LP modes.; Note: 4.5 to 5.5V Supply Range in HS mode.; Published: 11-Oct-2004; LatestRevisionDate: 13-Apr-2006; LatestRevisionNote: IPC-7351 Footprint Added.; DatasheetVersion: DS40143D_2002; PackageVersion: 2005; PackageReference: SOIC300-28; Publisher: Altium Limited; PackageDescription: 28-Pin Small Outline Integrated Circuit 1.27 mm Pitch; Code_JEDEC: MS-013; ComponentLink1Description: Manufacturer Link; ComponentLink1URL: http://www.microchip.com; ComponentLink2Description: Datasheet; ComponentLink2URL: http://ww1.microchip.com/downloads/en/DeviceDoc/40143d.pdf; ComponentLink3Description: Packaging Specification; ComponentLink3URL: http://ww1.microchip.com/downloads/en/PackagingSpec/00049AD.pdf
footprint SOIC300-28_N (SOIC, 28-Leads, Body 17.9x7.5mm, Pitch 1.27mm, IPC Medium Density)
footprint SOIC300-28_L (SOIC, 28-Leads, Body 17.9x7.5mm, Pitch 1.27mm, IPC High Density)
footprint SOIC300-28_M (SOIC, 28-Leads, Body 17.9x7.5mm, Pitch 1.27mm, IPC Low Density)
3D model SOIC300-28 (28-Pin Small Outline Integrated Circuit 1.27 mm Pitch)
pins: 1 RA4/T0CKI (io), 2 VDD (power), 3 NC, 4 VSS (power), 5 RA5 (io), 6 RA0 (io), 7 RA1 (io), 8 RA2 (io), 9 RA3 (io), 10 RB0/INT (io), 11 RB1 (io), 12 RB2 (io), 13 RB3 (io), 14 RB4 (io), 15 RB5 (io), 16 RB6 (io), 17 RB7 (io), 18 RC0 (io), 19 RC1 (io), 20 RC2 (io), 21 RC3 (io), 22 RC4 (io), 23 RC5 (io), 24 RC6 (io), 25 RC7 (io), 26 OSC2/CLKOUT (out), 27 OSC1/CLKIN (in), 28 ~{MCLR}/VPP (in)

## PIC16C557T-04/SS
designator U?
EPROM-Based 8-Bit CMOS Microcontroller, 128 Bytes RAM, 4 MHz, 22 I/O pins, 28-Pin SSOP, Standard VDD Range, Commercial Temperature, Tape and Reel; Note: All PIC16C55X Family devices use serial programming with clock pin RB6 and data pin RB7.; Note: 3.0 to 5.5V Supply Range in RC, XT and LP modes.; Note: 4.5 to 5.5V Supply Range in HS mode.; Published: 11-Oct-2004; LatestRevisionDate: 04-Mar-2005; LatestRevisionNote: Stylized 3D Model Added.; DatasheetVersion: DS40143D_2002; PackageVersion: 2005; PackageReference: SSOP-28; Publisher: Altium Limited; PackageDescription: SSOP, Plastic; 28 Leads; Body Width 5.2 mm; Pitch 0.65 mm; Code_JEDEC: MS-150; ComponentLink1Description: Manufacturer Link; ComponentLink1URL: http://www.microchip.com; ComponentLink2Description: Datasheet; ComponentLink2URL: http://ww1.microchip.com/downloads/en/DeviceDoc/40143d.pdf; ComponentLink3Description: Packaging Specification; ComponentLink3URL: http://ww1.microchip.com/downloads/en/PackagingSpec/00049AD.pdf
footprint SSOP-28 (SSOP, Plastic; 28 Leads; Body Width 5.2 mm; Pitch 0.65 mm)
3D model SSOP-28 (SSOP, Plastic; 28 Leads; Body Width 5.2 mm; Pitch 0.65 mm)
pins: 1 VSS (power), 2 RA4/T0CKI (io), 3 VDD (power), 4 RA5 (io), 5 RA0 (io), 6 RA1 (io), 7 RA2 (io), 8 RA3 (io), 9 RB0/INT (io), 10 RB1 (io), 11 RB2 (io), 12 RB3 (io), 13 RB4 (io), 14 VSS (power), 15 RB5 (io), 16 RB6 (io), 17 RB7 (io), 18 RC0 (io), 19 RC1 (io), 20 RC2 (io), 21 RC3 (io), 22 RC4 (io), 23 RC5 (io), 24 RC6 (io), 25 RC7 (io), 26 OSC2/CLKOUT (out), 27 OSC1/CLKIN (in), 28 ~{MCLR}/VPP (in)

## PIC16C557T-04E/SO
designator U?
EPROM-Based 8-Bit CMOS Microcontroller, 128 Bytes RAM, 4 MHz, 22 I/O pins, 28-Pin SOIC, Standard VDD Range, Extended Temperature, Tape and Reel; Note: All PIC16C55X Family devices use serial programming with clock pin RB6 and data pin RB7.; Note: 3.0 to 5.5V Supply Range in RC, XT and LP modes.; Note: 4.5 to 5.5V Supply Range in HS mode.; Published: 11-Oct-2004; LatestRevisionDate: 13-Apr-2006; LatestRevisionNote: IPC-7351 Footprint Added.; DatasheetVersion: DS40143D_2002; PackageVersion: 2005; PackageReference: SOIC300-28; Publisher: Altium Limited; PackageDescription: 28-Pin Small Outline Integrated Circuit 1.27 mm Pitch; Code_JEDEC: MS-013; ComponentLink1Description: Manufacturer Link; ComponentLink1URL: http://www.microchip.com; ComponentLink2Description: Datasheet; ComponentLink2URL: http://ww1.microchip.com/downloads/en/DeviceDoc/40143d.pdf; ComponentLink3Description: Packaging Specification; ComponentLink3URL: http://ww1.microchip.com/downloads/en/PackagingSpec/00049AD.pdf
footprint SOIC300-28_N (SOIC, 28-Leads, Body 17.9x7.5mm, Pitch 1.27mm, IPC Medium Density)
footprint SOIC300-28_L (SOIC, 28-Leads, Body 17.9x7.5mm, Pitch 1.27mm, IPC High Density)
footprint SOIC300-28_M (SOIC, 28-Leads, Body 17.9x7.5mm, Pitch 1.27mm, IPC Low Density)
3D model SOIC300-28 (28-Pin Small Outline Integrated Circuit 1.27 mm Pitch)
pins: 1 RA4/T0CKI (io), 2 VDD (power), 3 NC, 4 VSS (power), 5 RA5 (io), 6 RA0 (io), 7 RA1 (io), 8 RA2 (io), 9 RA3 (io), 10 RB0/INT (io), 11 RB1 (io), 12 RB2 (io), 13 RB3 (io), 14 RB4 (io), 15 RB5 (io), 16 RB6 (io), 17 RB7 (io), 18 RC0 (io), 19 RC1 (io), 20 RC2 (io), 21 RC3 (io), 22 RC4 (io), 23 RC5 (io), 24 RC6 (io), 25 RC7 (io), 26 OSC2/CLKOUT (out), 27 OSC1/CLKIN (in), 28 ~{MCLR}/VPP (in)

## PIC16C557T-04E/SS
designator U?
EPROM-Based 8-Bit CMOS Microcontroller, 128 Bytes RAM, 4 MHz, 22 I/O pins, 28-Pin SSOP, Standard VDD Range, Extended Temperature, Tape and Reel; Note: All PIC16C55X Family devices use serial programming with clock pin RB6 and data pin RB7.; Note: 3.0 to 5.5V Supply Range in RC, XT and LP modes.; Note: 4.5 to 5.5V Supply Range in HS mode.; Published: 11-Oct-2004; LatestRevisionDate: 04-Mar-2005; LatestRevisionNote: Stylized 3D Model Added.; DatasheetVersion: DS40143D_2002; PackageVersion: 2005; PackageReference: SSOP-28; Publisher: Altium Limited; PackageDescription: SSOP, Plastic; 28 Leads; Body Width 5.2 mm; Pitch 0.65 mm; Code_JEDEC: MS-150; ComponentLink1Description: Manufacturer Link; ComponentLink1URL: http://www.microchip.com; ComponentLink2Description: Datasheet; ComponentLink2URL: http://ww1.microchip.com/downloads/en/DeviceDoc/40143d.pdf; ComponentLink3Description: Packaging Specification; ComponentLink3URL: http://ww1.microchip.com/downloads/en/PackagingSpec/00049AD.pdf
footprint SSOP-28 (SSOP, Plastic; 28 Leads; Body Width 5.2 mm; Pitch 0.65 mm)
3D model SSOP-28 (SSOP, Plastic; 28 Leads; Body Width 5.2 mm; Pitch 0.65 mm)
pins: 1 VSS (power), 2 RA4/T0CKI (io), 3 VDD (power), 4 RA5 (io), 5 RA0 (io), 6 RA1 (io), 7 RA2 (io), 8 RA3 (io), 9 RB0/INT (io), 10 RB1 (io), 11 RB2 (io), 12 RB3 (io), 13 RB4 (io), 14 VSS (power), 15 RB5 (io), 16 RB6 (io), 17 RB7 (io), 18 RC0 (io), 19 RC1 (io), 20 RC2 (io), 21 RC3 (io), 22 RC4 (io), 23 RC5 (io), 24 RC6 (io), 25 RC7 (io), 26 OSC2/CLKOUT (out), 27 OSC1/CLKIN (in), 28 ~{MCLR}/VPP (in)

## PIC16C557T-04I/SO
designator U?
EPROM-Based 8-Bit CMOS Microcontroller, 128 Bytes RAM, 4 MHz, 22 I/O pins, 28-Pin SOIC, Standard VDD Range, Industrial Temperature, Tape and Reel; Note: All PIC16C55X Family devices use serial programming with clock pin RB6 and data pin RB7.; Note: 3.0 to 5.5V Supply Range in RC, XT and LP modes.; Note: 4.5 to 5.5V Supply Range in HS mode.; Published: 11-Oct-2004; LatestRevisionDate: 13-Apr-2006; LatestRevisionNote: IPC-7351 Footprint Added.; DatasheetVersion: DS40143D_2002; PackageVersion: 2005; PackageReference: SOIC300-28; Publisher: Altium Limited; PackageDescription: 28-Pin Small Outline Integrated Circuit 1.27 mm Pitch; Code_JEDEC: MS-013; ComponentLink1Description: Manufacturer Link; ComponentLink1URL: http://www.microchip.com; ComponentLink2Description: Datasheet; ComponentLink2URL: http://ww1.microchip.com/downloads/en/DeviceDoc/40143d.pdf; ComponentLink3Description: Packaging Specification; ComponentLink3URL: http://ww1.microchip.com/downloads/en/PackagingSpec/00049AD.pdf
footprint SOIC300-28_N (SOIC, 28-Leads, Body 17.9x7.5mm, Pitch 1.27mm, IPC Medium Density)
footprint SOIC300-28_L (SOIC, 28-Leads, Body 17.9x7.5mm, Pitch 1.27mm, IPC High Density)
footprint SOIC300-28_M (SOIC, 28-Leads, Body 17.9x7.5mm, Pitch 1.27mm, IPC Low Density)
3D model SOIC300-28 (28-Pin Small Outline Integrated Circuit 1.27 mm Pitch)
pins: 1 RA4/T0CKI (io), 2 VDD (power), 3 NC, 4 VSS (power), 5 RA5 (io), 6 RA0 (io), 7 RA1 (io), 8 RA2 (io), 9 RA3 (io), 10 RB0/INT (io), 11 RB1 (io), 12 RB2 (io), 13 RB3 (io), 14 RB4 (io), 15 RB5 (io), 16 RB6 (io), 17 RB7 (io), 18 RC0 (io), 19 RC1 (io), 20 RC2 (io), 21 RC3 (io), 22 RC4 (io), 23 RC5 (io), 24 RC6 (io), 25 RC7 (io), 26 OSC2/CLKOUT (out), 27 OSC1/CLKIN (in), 28 ~{MCLR}/VPP (in)

## PIC16C557T-04I/SS
designator U?
EPROM-Based 8-Bit CMOS Microcontroller, 128 Bytes RAM, 4 MHz, 22 I/O pins, 28-Pin SSOP, Standard VDD Range, Industrial Temperature, Tape and Reel; Note: All PIC16C55X Family devices use serial programming with clock pin RB6 and data pin RB7.; Note: 3.0 to 5.5V Supply Range in RC, XT and LP modes.; Note: 4.5 to 5.5V Supply Range in HS mode.; Published: 11-Oct-2004; LatestRevisionDate: 04-Mar-2005; LatestRevisionNote: Stylized 3D Model Added.; DatasheetVersion: DS40143D_2002; PackageVersion: 2005; PackageReference: SSOP-28; Publisher: Altium Limited; PackageDescription: SSOP, Plastic; 28 Leads; Body Width 5.2 mm; Pitch 0.65 mm; Code_JEDEC: MS-150; ComponentLink1Description: Manufacturer Link; ComponentLink1URL: http://www.microchip.com; ComponentLink2Description: Datasheet; ComponentLink2URL: http://ww1.microchip.com/downloads/en/DeviceDoc/40143d.pdf; ComponentLink3Description: Packaging Specification; ComponentLink3URL: http://ww1.microchip.com/downloads/en/PackagingSpec/00049AD.pdf
footprint SSOP-28 (SSOP, Plastic; 28 Leads; Body Width 5.2 mm; Pitch 0.65 mm)
3D model SSOP-28 (SSOP, Plastic; 28 Leads; Body Width 5.2 mm; Pitch 0.65 mm)
pins: 1 VSS (power), 2 RA4/T0CKI (io), 3 VDD (power), 4 RA5 (io), 5 RA0 (io), 6 RA1 (io), 7 RA2 (io), 8 RA3 (io), 9 RB0/INT (io), 10 RB1 (io), 11 RB2 (io), 12 RB3 (io), 13 RB4 (io), 14 VSS (power), 15 RB5 (io), 16 RB6 (io), 17 RB7 (io), 18 RC0 (io), 19 RC1 (io), 20 RC2 (io), 21 RC3 (io), 22 RC4 (io), 23 RC5 (io), 24 RC6 (io), 25 RC7 (io), 26 OSC2/CLKOUT (out), 27 OSC1/CLKIN (in), 28 ~{MCLR}/VPP (in)

## PIC16C557T-20/SO
designator U?
EPROM-Based 8-Bit CMOS Microcontroller, 128 Bytes RAM, 20 MHz, 22 I/O pins, 28-Pin SOIC, Standard VDD Range, Commercial Temperature, Tape and Reel; Note: All PIC16C55X Family devices use serial programming with clock pin RB6 and data pin RB7.; Note: 3.0 to 5.5V Supply Range in RC, XT and LP modes.; Note: 4.5 to 5.5V Supply Range in HS mode.; Published: 11-Oct-2004; LatestRevisionDate: 13-Apr-2006; LatestRevisionNote: IPC-7351 Footprint Added.; DatasheetVersion: DS40143D_2002; PackageVersion: 2005; PackageReference: SOIC300-28; Publisher: Altium Limited; PackageDescription: 28-Pin Small Outline Integrated Circuit 1.27 mm Pitch; Code_JEDEC: MS-013; ComponentLink1Description: Manufacturer Link; ComponentLink1URL: http://www.microchip.com; ComponentLink2Description: Datasheet; ComponentLink2URL: http://ww1.microchip.com/downloads/en/DeviceDoc/40143d.pdf; ComponentLink3Description: Packaging Specification; ComponentLink3URL: http://ww1.microchip.com/downloads/en/PackagingSpec/00049AD.pdf
footprint SOIC300-28_N (SOIC, 28-Leads, Body 17.9x7.5mm, Pitch 1.27mm, IPC Medium Density)
footprint SOIC300-28_L (SOIC, 28-Leads, Body 17.9x7.5mm, Pitch 1.27mm, IPC High Density)
footprint SOIC300-28_M (SOIC, 28-Leads, Body 17.9x7.5mm, Pitch 1.27mm, IPC Low Density)
3D model SOIC300-28 (28-Pin Small Outline Integrated Circuit 1.27 mm Pitch)
pins: 1 RA4/T0CKI (io), 2 VDD (power), 3 NC, 4 VSS (power), 5 RA5 (io), 6 RA0 (io), 7 RA1 (io), 8 RA2 (io), 9 RA3 (io), 10 RB0/INT (io), 11 RB1 (io), 12 RB2 (io), 13 RB3 (io), 14 RB4 (io), 15 RB5 (io), 16 RB6 (io), 17 RB7 (io), 18 RC0 (io), 19 RC1 (io), 20 RC2 (io), 21 RC3 (io), 22 RC4 (io), 23 RC5 (io), 24 RC6 (io), 25 RC7 (io), 26 OSC2/CLKOUT (out), 27 OSC1/CLKIN (in), 28 ~{MCLR}/VPP (in)

## PIC16C557T-20/SS
designator U?
EPROM-Based 8-Bit CMOS Microcontroller, 128 Bytes RAM, 20 MHz, 22 I/O pins, 28-Pin SSOP, Standard VDD Range, Commercial Temperature, Tape and Reel; Note: All PIC16C55X Family devices use serial programming with clock pin RB6 and data pin RB7.; Note: 3.0 to 5.5V Supply Range in RC, XT and LP modes.; Note: 4.5 to 5.5V Supply Range in HS mode.; Published: 11-Oct-2004; LatestRevisionDate: 04-Mar-2005; LatestRevisionNote: Stylized 3D Model Added.; DatasheetVersion: DS40143D_2002; PackageVersion: 2005; PackageReference: SSOP-28; Publisher: Altium Limited; PackageDescription: SSOP, Plastic; 28 Leads; Body Width 5.2 mm; Pitch 0.65 mm; Code_JEDEC: MS-150; ComponentLink1Description: Manufacturer Link; ComponentLink1URL: http://www.microchip.com; ComponentLink2Description: Datasheet; ComponentLink2URL: http://ww1.microchip.com/downloads/en/DeviceDoc/40143d.pdf; ComponentLink3Description: Packaging Specification; ComponentLink3URL: http://ww1.microchip.com/downloads/en/PackagingSpec/00049AD.pdf
footprint SSOP-28 (SSOP, Plastic; 28 Leads; Body Width 5.2 mm; Pitch 0.65 mm)
3D model SSOP-28 (SSOP, Plastic; 28 Leads; Body Width 5.2 mm; Pitch 0.65 mm)
pins: 1 VSS (power), 2 RA4/T0CKI (io), 3 VDD (power), 4 RA5 (io), 5 RA0 (io), 6 RA1 (io), 7 RA2 (io), 8 RA3 (io), 9 RB0/INT (io), 10 RB1 (io), 11 RB2 (io), 12 RB3 (io), 13 RB4 (io), 14 VSS (power), 15 RB5 (io), 16 RB6 (io), 17 RB7 (io), 18 RC0 (io), 19 RC1 (io), 20 RC2 (io), 21 RC3 (io), 22 RC4 (io), 23 RC5 (io), 24 RC6 (io), 25 RC7 (io), 26 OSC2/CLKOUT (out), 27 OSC1/CLKIN (in), 28 ~{MCLR}/VPP (in)

## PIC16C557T-20E/SO
designator U?
EPROM-Based 8-Bit CMOS Microcontroller, 128 Bytes RAM, 20 MHz, 22 I/O pins, 28-Pin SOIC, Standard VDD Range, Extended Temperature, Tape and Reel; Note: All PIC16C55X Family devices use serial programming with clock pin RB6 and data pin RB7.; Note: 3.0 to 5.5V Supply Range in RC, XT and LP modes.; Note: 4.5 to 5.5V Supply Range in HS mode.; Published: 11-Oct-2004; LatestRevisionDate: 13-Apr-2006; LatestRevisionNote: IPC-7351 Footprint Added.; DatasheetVersion: DS40143D_2002; PackageVersion: 2005; PackageReference: SOIC300-28; Publisher: Altium Limited; PackageDescription: 28-Pin Small Outline Integrated Circuit 1.27 mm Pitch; Code_JEDEC: MS-013; ComponentLink1Description: Manufacturer Link; ComponentLink1URL: http://www.microchip.com; ComponentLink2Description: Datasheet; ComponentLink2URL: http://ww1.microchip.com/downloads/en/DeviceDoc/40143d.pdf; ComponentLink3Description: Packaging Specification; ComponentLink3URL: http://ww1.microchip.com/downloads/en/PackagingSpec/00049AD.pdf
footprint SOIC300-28_N (SOIC, 28-Leads, Body 17.9x7.5mm, Pitch 1.27mm, IPC Medium Density)
footprint SOIC300-28_L (SOIC, 28-Leads, Body 17.9x7.5mm, Pitch 1.27mm, IPC High Density)
footprint SOIC300-28_M (SOIC, 28-Leads, Body 17.9x7.5mm, Pitch 1.27mm, IPC Low Density)
3D model SOIC300-28 (28-Pin Small Outline Integrated Circuit 1.27 mm Pitch)
pins: 1 RA4/T0CKI (io), 2 VDD (power), 3 NC, 4 VSS (power), 5 RA5 (io), 6 RA0 (io), 7 RA1 (io), 8 RA2 (io), 9 RA3 (io), 10 RB0/INT (io), 11 RB1 (io), 12 RB2 (io), 13 RB3 (io), 14 RB4 (io), 15 RB5 (io), 16 RB6 (io), 17 RB7 (io), 18 RC0 (io), 19 RC1 (io), 20 RC2 (io), 21 RC3 (io), 22 RC4 (io), 23 RC5 (io), 24 RC6 (io), 25 RC7 (io), 26 OSC2/CLKOUT (out), 27 OSC1/CLKIN (in), 28 ~{MCLR}/VPP (in)

## PIC16C557T-20E/SS
designator U?
EPROM-Based 8-Bit CMOS Microcontroller, 128 Bytes RAM, 20 MHz, 22 I/O pins, 28-Pin SSOP, Standard VDD Range, Extended Temperature, Tape and Reel; Note: All PIC16C55X Family devices use serial programming with clock pin RB6 and data pin RB7.; Note: 3.0 to 5.5V Supply Range in RC, XT and LP modes.; Note: 4.5 to 5.5V Supply Range in HS mode.; Published: 11-Oct-2004; LatestRevisionDate: 04-Mar-2005; LatestRevisionNote: Stylized 3D Model Added.; DatasheetVersion: DS40143D_2002; PackageVersion: 2005; PackageReference: SSOP-28; Publisher: Altium Limited; PackageDescription: SSOP, Plastic; 28 Leads; Body Width 5.2 mm; Pitch 0.65 mm; Code_JEDEC: MS-150; ComponentLink1Description: Manufacturer Link; ComponentLink1URL: http://www.microchip.com; ComponentLink2Description: Datasheet; ComponentLink2URL: http://ww1.microchip.com/downloads/en/DeviceDoc/40143d.pdf; ComponentLink3Description: Packaging Specification; ComponentLink3URL: http://ww1.microchip.com/downloads/en/PackagingSpec/00049AD.pdf
footprint SSOP-28 (SSOP, Plastic; 28 Leads; Body Width 5.2 mm; Pitch 0.65 mm)
3D model SSOP-28 (SSOP, Plastic; 28 Leads; Body Width 5.2 mm; Pitch 0.65 mm)
pins: 1 VSS (power), 2 RA4/T0CKI (io), 3 VDD (power), 4 RA5 (io), 5 RA0 (io), 6 RA1 (io), 7 RA2 (io), 8 RA3 (io), 9 RB0/INT (io), 10 RB1 (io), 11 RB2 (io), 12 RB3 (io), 13 RB4 (io), 14 VSS (power), 15 RB5 (io), 16 RB6 (io), 17 RB7 (io), 18 RC0 (io), 19 RC1 (io), 20 RC2 (io), 21 RC3 (io), 22 RC4 (io), 23 RC5 (io), 24 RC6 (io), 25 RC7 (io), 26 OSC2/CLKOUT (out), 27 OSC1/CLKIN (in), 28 ~{MCLR}/VPP (in)

## PIC16C557T-20I/SO
designator U?
EPROM-Based 8-Bit CMOS Microcontroller, 128 Bytes RAM, 20 MHz, 22 I/O pins, 28-Pin SOIC, Standard VDD Range, Industrial Temperature, Tape and Reel; Note: All PIC16C55X Family devices use serial programming with clock pin RB6 and data pin RB7.; Note: 3.0 to 5.5V Supply Range in RC, XT and LP modes.; Note: 4.5 to 5.5V Supply Range in HS mode.; Published: 11-Oct-2004; LatestRevisionDate: 13-Apr-2006; LatestRevisionNote: IPC-7351 Footprint Added.; DatasheetVersion: DS40143D_2002; PackageVersion: 2005; PackageReference: SOIC300-28; Publisher: Altium Limited; PackageDescription: 28-Pin Small Outline Integrated Circuit 1.27 mm Pitch; Code_JEDEC: MS-013; ComponentLink1Description: Manufacturer Link; ComponentLink1URL: http://www.microchip.com; ComponentLink2Description: Datasheet; ComponentLink2URL: http://ww1.microchip.com/downloads/en/DeviceDoc/40143d.pdf; ComponentLink3Description: Packaging Specification; ComponentLink3URL: http://ww1.microchip.com/downloads/en/PackagingSpec/00049AD.pdf
footprint SOIC300-28_N (SOIC, 28-Leads, Body 17.9x7.5mm, Pitch 1.27mm, IPC Medium Density)
footprint SOIC300-28_L (SOIC, 28-Leads, Body 17.9x7.5mm, Pitch 1.27mm, IPC High Density)
footprint SOIC300-28_M (SOIC, 28-Leads, Body 17.9x7.5mm, Pitch 1.27mm, IPC Low Density)
3D model SOIC300-28 (28-Pin Small Outline Integrated Circuit 1.27 mm Pitch)
pins: 1 RA4/T0CKI (io), 2 VDD (power), 3 NC, 4 VSS (power), 5 RA5 (io), 6 RA0 (io), 7 RA1 (io), 8 RA2 (io), 9 RA3 (io), 10 RB0/INT (io), 11 RB1 (io), 12 RB2 (io), 13 RB3 (io), 14 RB4 (io), 15 RB5 (io), 16 RB6 (io), 17 RB7 (io), 18 RC0 (io), 19 RC1 (io), 20 RC2 (io), 21 RC3 (io), 22 RC4 (io), 23 RC5 (io), 24 RC6 (io), 25 RC7 (io), 26 OSC2/CLKOUT (out), 27 OSC1/CLKIN (in), 28 ~{MCLR}/VPP (in)

## PIC16C557T-20I/SS
designator U?
EPROM-Based 8-Bit CMOS Microcontroller, 128 Bytes RAM, 20 MHz, 22 I/O pins, 28-Pin SSOP, Standard VDD Range, Industrial Temperature, Tape and Reel; Note: All PIC16C55X Family devices use serial programming with clock pin RB6 and data pin RB7.; Note: 3.0 to 5.5V Supply Range in RC, XT and LP modes.; Note: 4.5 to 5.5V Supply Range in HS mode.; Published: 11-Oct-2004; LatestRevisionDate: 04-Mar-2005; LatestRevisionNote: Stylized 3D Model Added.; DatasheetVersion: DS40143D_2002; PackageVersion: 2005; PackageReference: SSOP-28; Publisher: Altium Limited; PackageDescription: SSOP, Plastic; 28 Leads; Body Width 5.2 mm; Pitch 0.65 mm; Code_JEDEC: MS-150; ComponentLink1Description: Manufacturer Link; ComponentLink1URL: http://www.microchip.com; ComponentLink2Description: Datasheet; ComponentLink2URL: http://ww1.microchip.com/downloads/en/DeviceDoc/40143d.pdf; ComponentLink3Description: Packaging Specification; ComponentLink3URL: http://ww1.microchip.com/downloads/en/PackagingSpec/00049AD.pdf
footprint SSOP-28 (SSOP, Plastic; 28 Leads; Body Width 5.2 mm; Pitch 0.65 mm)
3D model SSOP-28 (SSOP, Plastic; 28 Leads; Body Width 5.2 mm; Pitch 0.65 mm)
pins: 1 VSS (power), 2 RA4/T0CKI (io), 3 VDD (power), 4 RA5 (io), 5 RA0 (io), 6 RA1 (io), 7 RA2 (io), 8 RA3 (io), 9 RB0/INT (io), 10 RB1 (io), 11 RB2 (io), 12 RB3 (io), 13 RB4 (io), 14 VSS (power), 15 RB5 (io), 16 RB6 (io), 17 RB7 (io), 18 RC0 (io), 19 RC1 (io), 20 RC2 (io), 21 RC3 (io), 22 RC4 (io), 23 RC5 (io), 24 RC6 (io), 25 RC7 (io), 26 OSC2/CLKOUT (out), 27 OSC1/CLKIN (in), 28 ~{MCLR}/VPP (in)